# Altium footprint library DM-USB2CAN.PcbLib: 15 footprints
Each footprint in its own frame and in the unit in brackets; x right, y up, seen from the top. Pads: shape width x height; smd on the part's side, far side on the other; paste and mask are expansions set on the pad; w line width, h text height; cw(c..) or ccw(c..) is an arc to the next point about the centre after c.
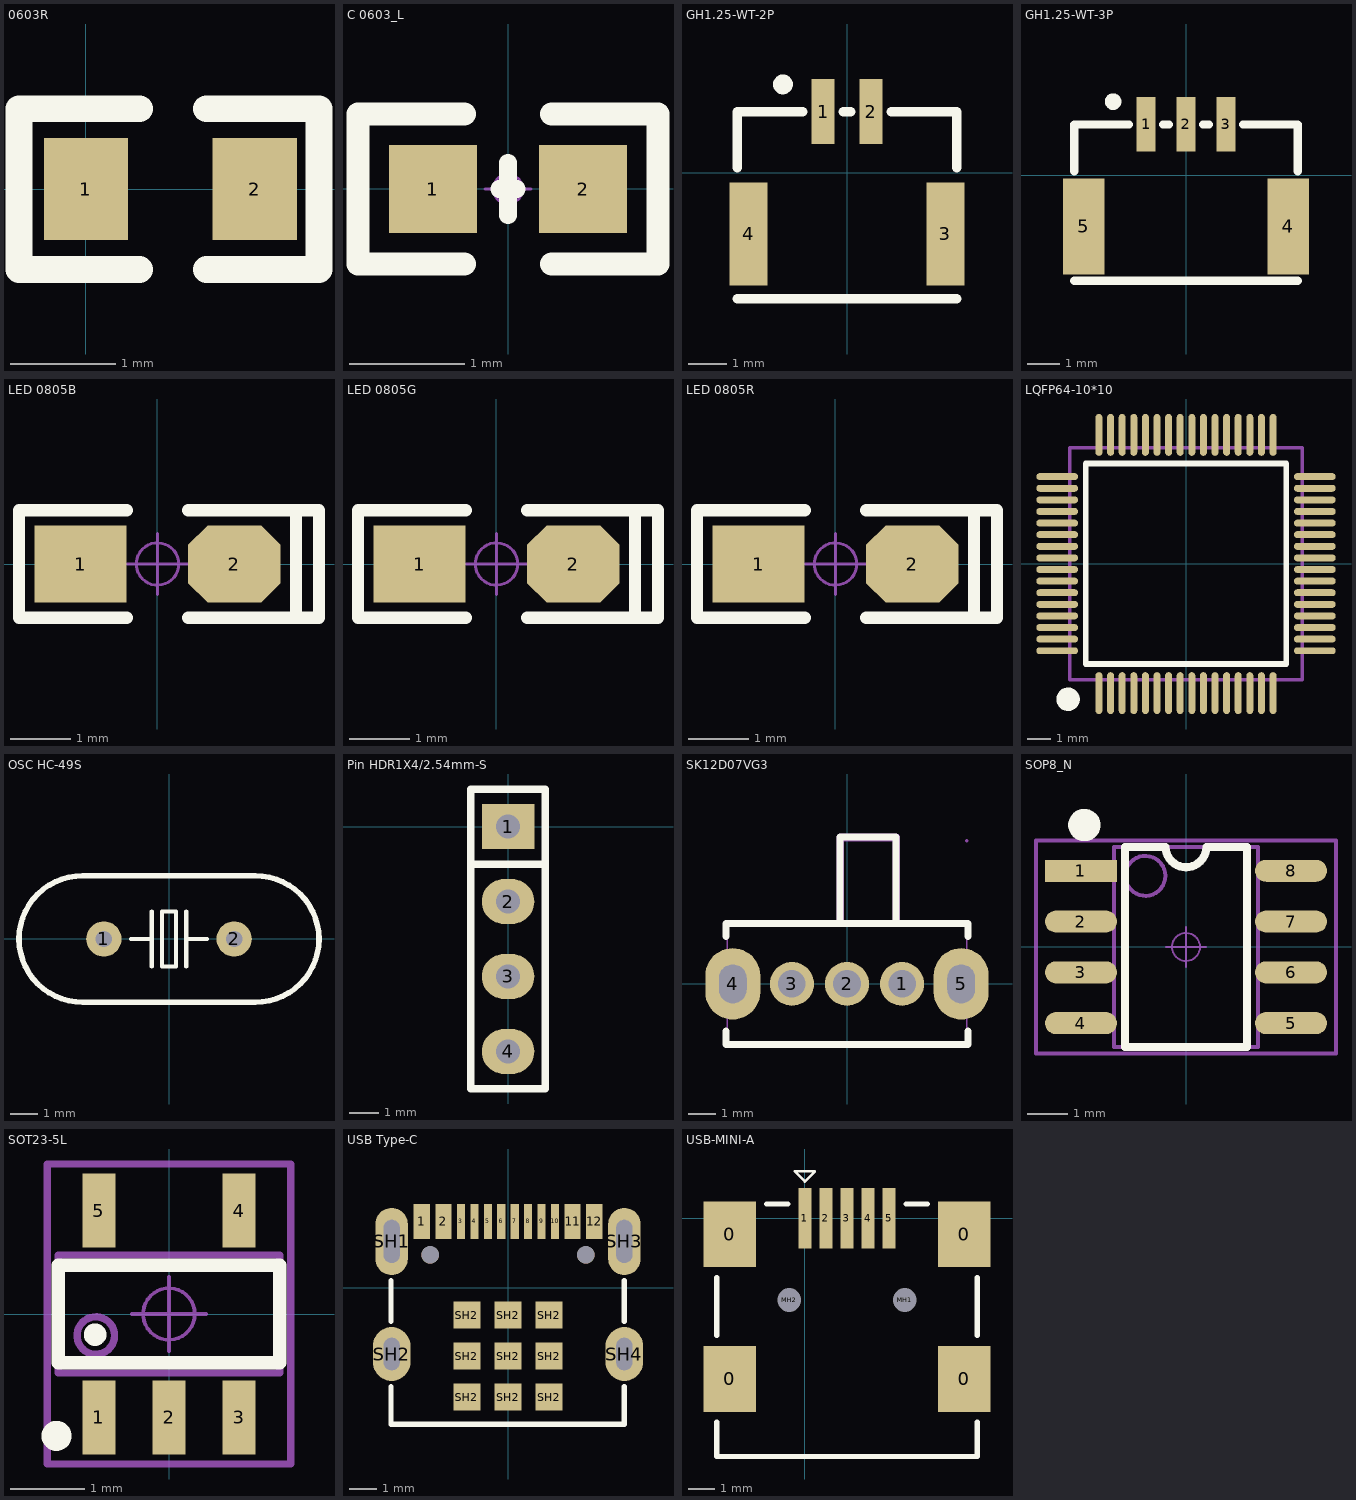
[diagram p0: the footprints below, top view; thin cyan lines are the x and y axes]

## 0603R [mm]
pads (2):
  rect 0.8x0.965 smd: 1(0,0) 2(1.6,0)
Top Overlay:
  lines w0.254: 0.508,-0.762 -0.635,-0.762 -0.635,0.762 0.508,0.762 ; 1.143,-0.762 2.21,-0.762 2.21,0.762 1.143,0.762
3D body "RES0603.STEP": height 0.45, standoff 0, extent -0.038,-0.41 1.562,0.41

## C 0603_L [mil] "无极性贴片电容                                       淘宝ID:黄晶宝石"
pads (2):
  rect 30x30 smd: 1(-25.59,0) 2(25.59,0)
Top Overlay:
  lines w6: -3,0 0,0 3,0 ; 0,-9 0,9
  lines w8: -15,-25.59 -51.18,-25.59 -51.18,25.59 -15,25.59 ; 15,-25.59 51.18,-25.59 51.18,25.59 15,25.59
Mechanical 15:
  circle w1: c0,0 r5
  lines w1: -7.87,0 7.87,0 ; 0,-7.87 0,7.87
3D body "C 0603.STEP": height 31.89, standoff -0.39, extent -31.5,-16.14 31.5,16.14

## GH1.25-WT-2P [mm]
pads (4):
  rect 0.6x1.7 smd: 1(-0.625,1.6) 2(0.625,1.6)
  rect 1x2.7 smd: 3(2.575,-1.6) 4(-2.575,-1.6)
Top Overlay:
  circle w0.26: c-1.676,2.311 r0.13
  lines w0.254: -2.875,-3.3 2.875,-3.3 ; -2.875,0.131 -2.875,1.6 -1.156,1.6 ; -0.094,1.6 0.094,1.6 ; 1.156,1.6 2.875,1.6 2.875,0.131
3D body "GH1.25-WT-2P.stp": height 4.26, standoff 0, extent -2.874,-2.856 2.875,2.003

## GH1.25-WT-3P [mm]
pads (5):
  rect 0.6x1.7 smd: 1(-1.25,1.6) 2(0,1.6) 3(1.25,1.6)
  rect 1.3x3 smd: 4(3.2,-1.6) 5(-3.2,-1.6)
Top Overlay:
  circle w0.26: c-2.286,2.311 r0.13
  lines w0.254: -3.5,-3.3 3.5,-3.3 ; -3.5,0.131 -3.5,1.6 -1.781,1.6 ; -0.719,1.6 -0.531,1.6 ; 0.531,1.6 0.719,1.6 ; 1.78,1.6 3.5,1.6 3.5,0.131
3D body "GH1.25-WT-3P.stp": height 4.26, standoff 0, extent -3.499,-2.856 3.499,2.003

## LED 0805B [mil] "蓝色0805LED                                    淘宝ID:黄晶宝石"
pads (2):
  rect 60x50 smd: 1(-50,0)
  oct 60x50 smd: 2(50,0)
Top Overlay:
  lines w8: -20,-35 -90,-35 -90,35 -20,35 ; 20,-35 105,-35 105,35 20,35 ; 90,-35 90,35
Mechanical 15:
  circle w1.97: c0,0 r13.78
  lines w1.97: -19.68,0 19.68,0 ; 0,-19.68 0,19.68
3D body "LED 0805玻璃罩.STEP": height 31.69, standoff 12.01, extent -29.49,-24.65 29.49,24.65
3D body "LED 0805-B.STEP": height 26.33, standoff -0.16, extent -39.37,-24.65 39.37,24.65

## LED 0805G [mil] "绿色0805LED"
pads (2):
  rect 60x50 smd: 1(-50,0)
  oct 60x50 smd: 2(50,0)
Top Overlay:
  lines w8: -20,-35 -90,-35 -90,35 -20,35 ; 20,-35 105,-35 105,35 20,35 ; 90,-35 90,35
Mechanical 15:
  circle w1.97: c0,0 r13.78
  lines w1.97: -19.68,0 19.68,0 ; 0,-19.68 0,19.68
3D body "LED 0805-G.STEP": height 26.33, standoff -0.16, extent -39.37,-24.65 39.37,24.65
3D body "LED 0805玻璃罩.ST": height 31.69, standoff 12.01, extent -29.49,-24.65 29.49,24.65

## LED 0805R [mil] "红色0805LED"
pads (2):
  rect 60x50 smd: 1(-50,0)
  oct 60x50 smd: 2(50,0)
Top Overlay:
  lines w8: -20,-35 -90,-35 -90,35 -20,35 ; 20,-35 105,-35 105,35 20,35 ; 90,-35 90,35
Mechanical 15:
  circle w1.97: c0,0 r13.78
  lines w1.97: -19.68,0 19.68,0 ; 0,-19.68 0,19.68
3D body "LED 0805玻璃罩.ST": height 31.69, standoff 12.01, extent -29.49,-24.65 29.49,24.65
3D body "LED 0805-R.STEP": height 26.33, standoff -0.16, extent -39.37,-24.65 39.37,24.64

## LQFP64-10*10 [mm] "10x10mm，0.5mm       淘宝ID:黄晶宝石"
height 1.6
pads (64):
  oval 0.3x1.8 smd: 1(-3.75,-5.575) 2(-3.25,-5.575) 3(-2.75,-5.575) 4(-2.25,-5.575) 5(-1.75,-5.575) 6(-1.25,-5.575) 7(-0.75,-5.575) 8(-0.25,-5.575) 9(0.25,-5.575) 10(0.75,-5.575) 11(1.25,-5.575) 12(1.75,-5.575) 13(2.25,-5.575) 14(2.75,-5.575) 15(3.25,-5.575) 16(3.75,-5.575) 33(3.75,5.55) 34(3.25,5.55) 35(2.75,5.55) 36(2.25,5.55) 37(1.75,5.55) 38(1.25,5.55) 39(0.75,5.55) 40(0.25,5.55) 41(-0.25,5.55) 42(-0.75,5.55) 43(-1.25,5.55) 44(-1.75,5.55) 45(-2.25,5.55) 46(-2.75,5.55) 47(-3.25,5.55) 48(-3.75,5.55)
  oval 1.8x0.3 smd: 17(5.55,-3.75) 18(5.55,-3.25) 19(5.55,-2.75) 20(5.55,-2.25) 21(5.55,-1.75) 22(5.55,-1.25) 23(5.55,-0.75) 24(5.55,-0.25) 25(5.55,0.25) 26(5.55,0.75) 27(5.55,1.25) 28(5.55,1.75) 29(5.55,2.25) 30(5.55,2.75) 31(5.55,3.25) 32(5.55,3.75) 49(-5.55,3.75) 50(-5.55,3.25) 51(-5.55,2.75) 52(-5.55,2.25) 53(-5.55,1.75) 54(-5.55,1.25) 55(-5.55,0.75) 56(-5.55,0.25) 57(-5.55,-0.25) 58(-5.55,-0.75) 59(-5.55,-1.25) 60(-5.55,-1.75) 61(-5.55,-2.25) 62(-5.55,-2.75) 63(-5.55,-3.25) 64(-5.55,-3.75)
Top Overlay:
  circle w0.508: c-5.08,-5.842 r0.25
  lines w0.254: -4.318,-4.318 -4.318,4.318 4.318,4.318 4.318,-4.318 -4.318,-4.318
Mechanical 13:
  lines w0.15: -5,-5 -5,5 5,5 5,-5 -5,-5
3D body "LQFP64-10x10.STEP": height 1.45, standoff 0, extent -6.003,-6.003 6.003,6.003

## OSC HC-49S [mm]
pads (2):
  round 1.3 hole 0.6: 1(-2.4,0) 2(2.4,0)
Top Overlay:
  lines w0.152: -1.397,0 -0.635,0 ; -0.635,-1.016 -0.635,1.016 ; 0.635,-1.016 0.635,1.016 ; 0.635,0 1.397,0 ; -0.254,-1.016 -0.254,1.016 0.254,1.016 0.254,-1.016 -0.254,-1.016
  lines w0.203: -3.175,2.325 ccw(c-3.2,0) -3.173,-2.325 3.175,-2.325 ccw(c3.2,0) 3.173,2.325 -3.175,2.325
3D body "OSC HC-49S.STEP": height 4.13, standoff -3.45, extent -5.525,-2.286 5.525,2.364

## Pin HDR1X4/2.54mm-S [mil]
pads (4):
  rect 70x60 hole 32: 1(0,0)
  oval 70x60 hole 32: 2(0,-100) 3(0,-200) 4(0,-300)
Top Overlay:
  lines w10: -50,-50 50,-50 ; -50,-350 50,-350 50,50 -50,50 -50,-350
3D body "1001-4.STEP": height 336.22, standoff -118.11, extent -49.99,-350 50.01,50

## SK12D07VG3 [mm]
pads (5):
  round 1.6 hole 1: 1(2,0) 2(0,0) 3(-2,0)
  oval 2x2.6 hole 1 slot 1.4 at 90 deg: 4(-4.15,0) 5(4.15,0)
Top Overlay:
  lines w0.254: -4.4,-1.715 -4.4,-2.2 4.4,-2.2 4.4,-1.715 ; -4.4,1.715 -4.4,2.2 4.4,2.2 4.4,1.715 ; -0.254,2.2 -0.254,5.334 1.784,5.334 1.784,2.2
Mechanical 6:
  region: 1.657,2.2 1.657,5.207 -0.127,5.207 -0.127,2.2 -0.127,2.147 -0.201,2.073 -0.307,2.073 -0.381,2.147 -0.381,2.2 -0.381,5.334 -0.381,5.359 -0.362,5.406 -0.326,5.442 -0.279,5.461 -0.254,5.461 1.784,5.461 1.809,5.461 1.856,5.442 1.891,5.406 1.911,5.359 1.911,5.334 1.911,2.2 1.911,2.147 1.836,2.073 1.731,2.073 1.657,2.147
Mechanical 15:
  region: 4.29,5.2 4.291,5.225 4.325,5.259 4.374,5.259 4.409,5.225 4.41,5.2 4.409,5.176 4.374,5.141 4.326,5.141 4.291,5.176
  region: 4.35,0.6 4.35,-0.6 3.95,-0.6 3.95,0.6
  region: -3.95,0.6 -3.95,-0.6 -4.35,-0.6 -4.35,0.6
  region: 1.75,-0.15 1.75,0.15 2.25,0.15 2.25,-0.15
  region: -0.25,-0.15 -0.25,0.15 0.25,0.15 0.25,-0.15
  region: -2.25,-0.15 -2.25,0.15 -1.75,0.15 -1.75,-0.15
  lines w0.051: -4.35,-2.2 4.35,-2.2 4.35,2.2 1.815,2.2 1.815,5.2 -0.185,5.2 -0.185,2.2 -4.35,2.2 -4.35,-2.2
3D body "Unnamed-Xram-PCBModel.step": height 4.72, standoff -2.78, extent -4.35,-2.159 4.35,6.241

## SOP8_N [mm] "5*6*1.8mm（长宽高）封装库来自淘宝卖家 ID：黄晶宝石"
height 1.75
pads (8):
  rect 1.8x0.55 smd: 1(-2.625,1.905)
  oval 1.8x0.55 smd: 2(-2.625,0.635) 3(-2.625,-0.635) 4(-2.625,-1.905) 5(2.625,-1.905) 6(2.625,-0.635) 7(2.625,0.635) 8(2.625,1.905)
Top Overlay:
  circle w0.5: c-2.54,3.048 r0.155
  lines w0.2: -1.524,2.5 -1.524,-2.5 1.524,-2.5 1.524,2.5
  lines w0.203: -1.524,2.5 -0.508,2.5 ccw(c0,2.5) 0,1.992 ccw(c0,2.5) 0.508,2.5 1.524,2.5
Mechanical 13:
  circle w0.1: c-1.016,1.778 r0.5
  lines w0.1: -1.8,-2.5 -1.8,2.5 1.8,2.5 1.8,-2.5 -1.8,-2.5
Mechanical 15:
  circle w0.05: c0,0 r0.35
  lines w0.05: -0.5,0 0.5,0 ; 0,-0.5 0,0.5
  lines w0.1: -3.75,-2.667 3.75,-2.667 3.75,2.667 -3.75,2.667 -3.75,-2.667
3D body "SOP8.STEP": height 1.9, standoff 0, extent -3.003,-2.5 3.003,2.5

## SOT23-5L [mm] "3x1.6x1.1mm(长宽高) 封装库来自淘宝卖家 ID：黄晶宝石"
pads (5):
  rect 0.45x1 smd: 1(-0.95,-1.4) 2(0,-1.4) 3(0.95,-1.4) 4(0.95,1.4) 5(-0.95,1.4)
Top Overlay:
  circle w0.254: c-1.524,-1.651 r0.076
  circle w0.254: c-1.001,-0.279 r0.025
  lines w0.178: -1.5,-0.66 -1.5,0.66 1.5,0.66 1.5,-0.66 -1.5,-0.66
Mechanical 13:
  circle w0.1: c-0.992,-0.292 r0.254
  lines w0.1: -1.5,-0.8 1.5,-0.8 1.5,0.8 -1.5,0.8 -1.5,-0.8
Mechanical 15:
  circle w0.05: c0,0 r0.35
  lines w0.05: -0.5,0 0.5,0 ; 0,-0.5 0,0.5
  lines w0.1: -1.651,-2.032 1.651,-2.032 1.651,2.032 -1.651,2.032 -1.651,-2.032
3D body "SOT23-5.STEP": height 1.15, standoff -0.03, extent -1.5,-1.403 1.5,1.403

## USB Type-C [mm]
pads (27):
  rect 0.6x1.3 smd mask+0.064: 1(-3.2,2.462) 2(-2.4,2.462) 11(2.4,2.462) 12(3.2,2.462)
  rect 0.3x1.3 smd mask+0.064: 3(-1.75,2.462) 4(-1.25,2.462) 5(-0.75,2.462) 6(-0.25,2.463) 7(0.25,2.463) 8(0.75,2.462) 9(1.25,2.462) 10(1.75,2.462)
  oval 1.2x2.5 hole 0.6 slot 1.6 at 90 deg: SH1(-4.32,1.718) SH3(4.32,1.717)
  oval 1.4x2 hole 0.6 slot 1.2 at 90 deg: SH2(-4.32,-2.462) SH4(4.32,-2.462)
  rect 1x1 smd mask+0: SH2(-1.524,-4.064) SH2(-1.524,-2.54) SH2(-1.524,-1.016) SH2(0,-4.064) SH2(0,-2.54) SH2(0,-1.016) SH2(1.524,-4.064)
  rect 1x1 smd paste+0 mask+0: SH2(1.524,-2.54) SH2(1.524,-1.016)
  round 0.65 hole 0.65 unplated mask+0: ""(-2.89,1.218) ""(2.89,1.218)
Top Overlay:
  lines w0.2: -4.343,-3.683 -4.343,-5.066 4.32,-5.066 4.32,-3.683 ; -4.343,-1.245 -4.343,0.254 ; 4.318,-1.245 4.318,0.254
3D body "Unnamed-Xram-PCBModel.step": height 3.26, standoff -0.9, extent -4.47,-4.99 4.47,2.59

## USB-MINI-A [mm]
pads (11):
  rect 2x2.5 smd: 0(-2.85,-6.108) 0(-2.85,-0.608) 0(6.05,-6.108) 0(6.05,-0.608)
  rect 0.5x2.3 smd: 1(0,0) 2(0.8,0) 3(1.6,0) 4(2.4,0) 5(3.2,0)
  round 0.6 hole 0.9 unplated: MH1(3.8,-3.108) MH2(-0.6,-3.108)
Top Overlay:
  lines w0.1: -0.381,1.778 0.381,1.778 0,1.397 -0.381,1.778
  lines w0.2: -3.35,-7.758 -3.35,-9.058 6.55,-9.058 6.55,-7.758 ; -3.35,-4.458 -3.35,-2.258 ; -1.45,0.542 -0.65,0.542 ; 3.85,0.542 4.65,0.542 ; 6.55,-4.458 6.55,-2.258
3D body "USB-MINI-A.STEP": height 3.95, standoff -0.7, extent -3.175,-9.041 6.325,0.659